# EAGLE library part LM567CN/NOPB (library DigiKey)
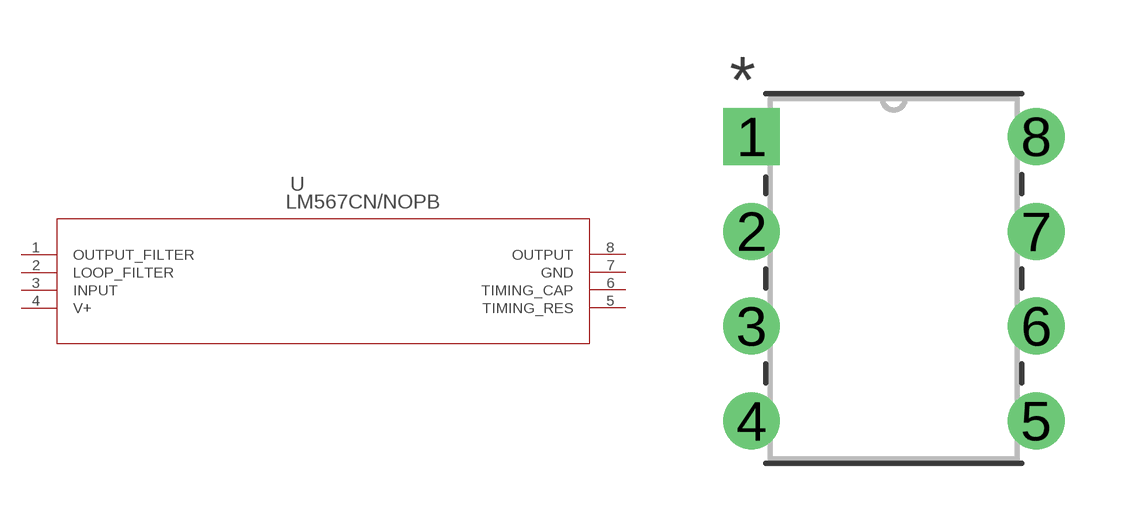
[diagram p2: symbol with the pads of N08E; footprint N08E]

Designator prefix U

## LM567CN/NOPB (MANUFACTURER_PART_NUMBER: LM567CNNOPB; VENDOR: Texas Instruments)  [N08E]
1  OUTPUT_FILTER  pas
2  LOOP_FILTER  pas
3  INPUT  in
4  V+  pwr
5  TIMING_RES  pas
6  TIMING_CAP  pas
7  GND  pwr
8  OUTPUT  out

## Footprint N08E (pad centres in mm)
drill 0.813 pad 1.524 square: 1 -7.62,7.62
drill 0.813 pad 1.524: 2 -7.62,5.08; 3 -7.62,2.54; 4 -7.62,0; 5 0,0; 6 0,2.54; 7 0,5.08; 8 0,7.62